# Altium schematic symbol library MemoryOld.SchLib: 102 symbols
Pins are listed as number, name and electrical type; pins without a type are passive.

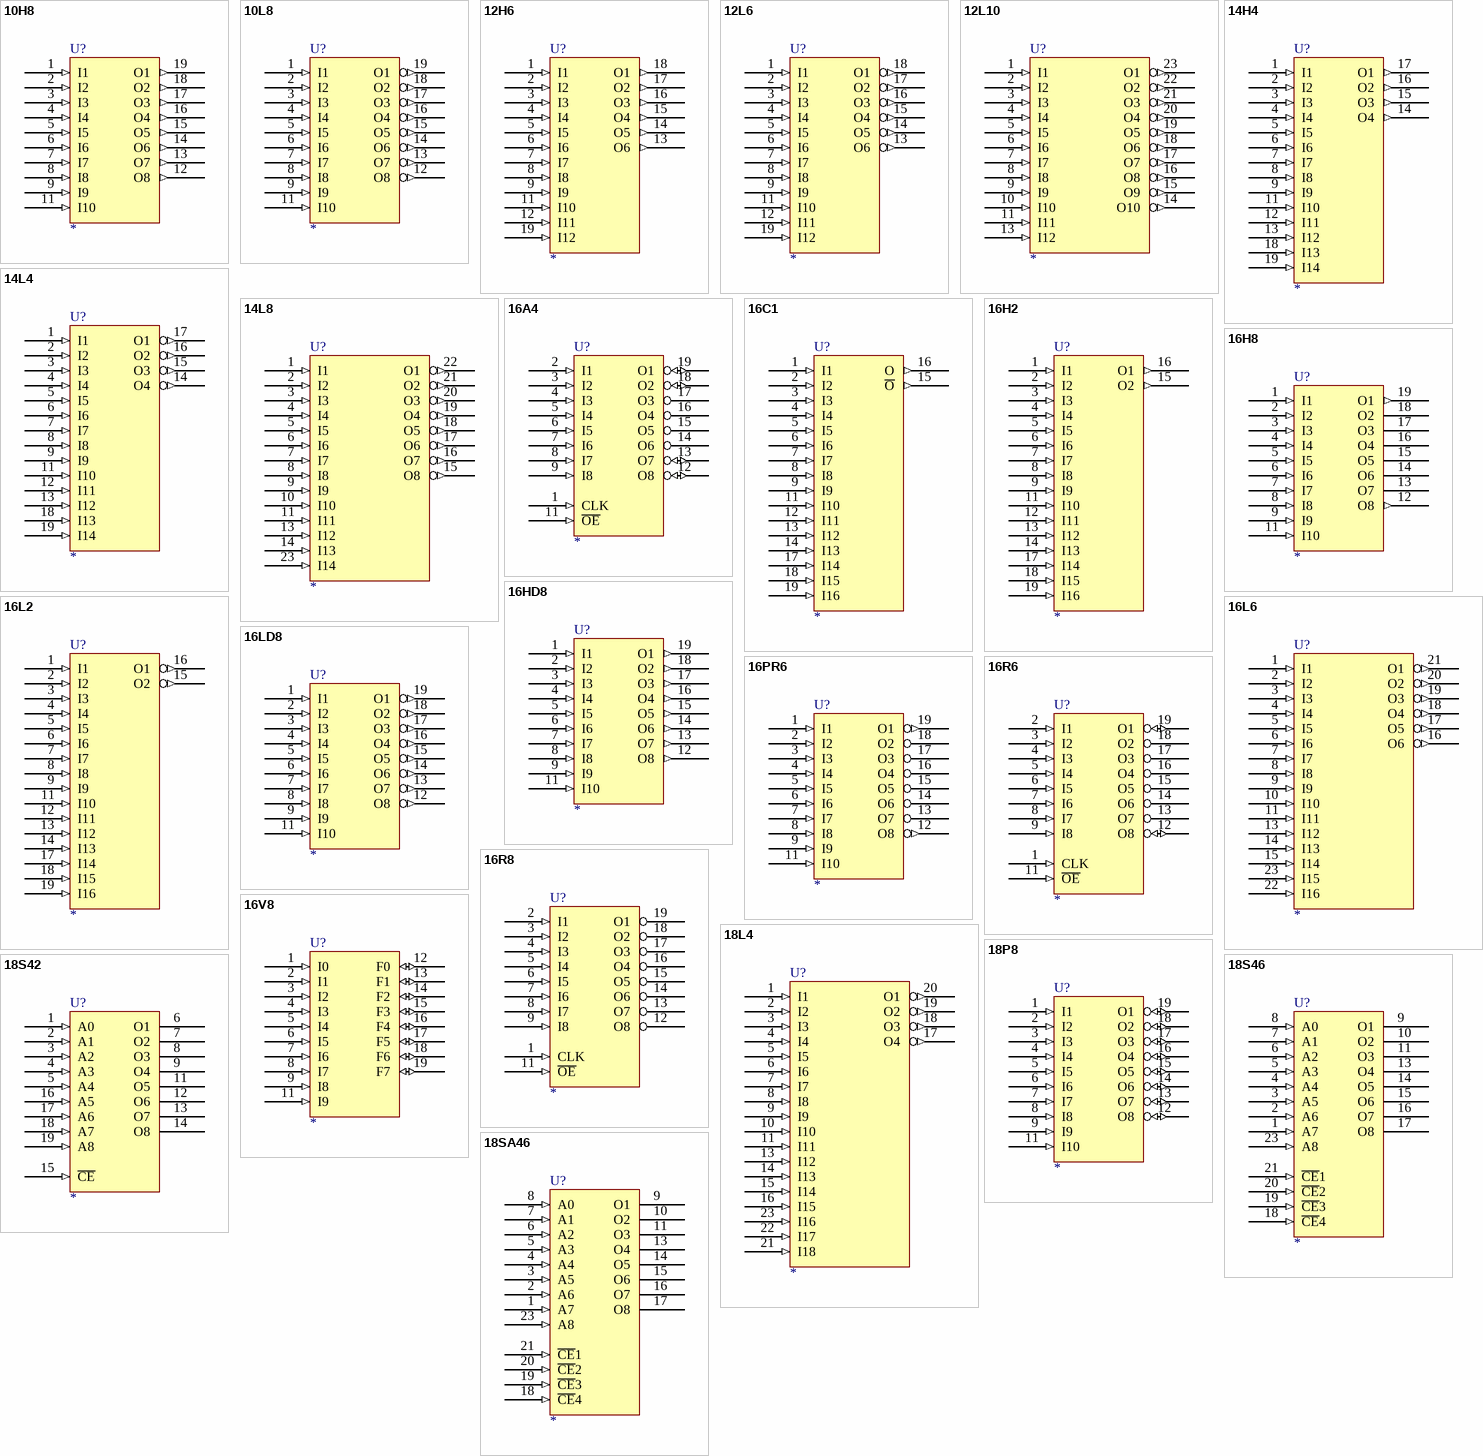
[diagram p0: symbols 10H8 to 18SA46]

## 10H8
designator U?
pins: 1 I1 (in), 2 I2 (in), 3 I3 (in), 4 I4 (in), 5 I5 (in), 6 I6 (in), 7 I7 (in), 8 I8 (in), 9 I9 (in), 10 GND (power) hidden to GND, 11 I10 (in), 12 O8 (out), 13 O7 (out), 14 O6 (out), 15 O5 (out), 16 O4 (out), 17 O3 (out), 18 O2 (out), 19 O1 (out), 20 VCC (power) hidden to VCC

## 10L8
designator U?
pins: 1 I1 (in), 2 I2 (in), 3 I3 (in), 4 I4 (in), 5 I5 (in), 6 I6 (in), 7 I7 (in), 8 I8 (in), 9 I9 (in), 10 GND (power) hidden to GND, 11 I10 (in), 12 O8 (out), 13 O7 (out), 14 O6 (out), 15 O5 (out), 16 O4 (out), 17 O3 (out), 18 O2 (out), 19 O1 (out), 20 VCC (power) hidden to VCC

## 12H6
designator U?
pins: 1 I1 (in), 2 I2 (in), 3 I3 (in), 4 I4 (in), 5 I5 (in), 6 I6 (in), 7 I7 (in), 8 I8 (in), 9 I9 (in), 10 GND (power) hidden to GND, 11 I10 (in), 12 I11 (in), 13 O6 (out), 14 O5 (out), 15 O4 (out), 16 O3 (out), 17 O2 (out), 18 O1 (out), 19 I12 (in), 20 VCC (power) hidden to VCC

## 12L6
designator U?
pins: 1 I1 (in), 2 I2 (in), 3 I3 (in), 4 I4 (in), 5 I5 (in), 6 I6 (in), 7 I7 (in), 8 I8 (in), 9 I9 (in), 10 GND (power) hidden to GND, 11 I10 (in), 12 I11 (in), 13 O6 (out), 14 O5 (out), 15 O4 (out), 16 O3 (out), 17 O2 (out), 18 O1 (out), 19 I12 (in), 20 VCC (power) hidden to VCC

## 12L10
designator U?
pins: 1 I1 (in), 2 I2 (in), 3 I3 (in), 4 I4 (in), 5 I5 (in), 6 I6 (in), 7 I7 (in), 8 I8 (in), 9 I9 (in), 10 I10 (in), 11 I11 (in), 12 GND (power) hidden to GND, 13 I12 (in), 14 O10 (out), 15 O9 (out), 16 O8 (out), 17 O7 (out), 18 O6 (out), 19 O5 (out), 20 O4 (out), 21 O3 (out), 22 O2 (out), 23 O1 (out), 24 VCC (power) hidden to VCC

## 14H4
designator U?
pins: 1 I1 (in), 2 I2 (in), 3 I3 (in), 4 I4 (in), 5 I5 (in), 6 I6 (in), 7 I7 (in), 8 I8 (in), 9 I9 (in), 10 GND (power) hidden to GND, 11 I10 (in), 12 I11 (in), 13 I12 (in), 14 O4 (out), 15 O3 (out), 16 O2 (out), 17 O1 (out), 18 I13 (in), 19 I14 (in), 20 VCC (power) hidden to VCC

## 14L4
designator U?
pins: 1 I1 (in), 2 I2 (in), 3 I3 (in), 4 I4 (in), 5 I5 (in), 6 I6 (in), 7 I7 (in), 8 I8 (in), 9 I9 (in), 10 GND (power) hidden to GND, 11 I10 (in), 12 I11 (in), 13 I12 (in), 14 O4 (out), 15 O3 (out), 16 O2 (out), 17 O1 (out), 18 I13 (in), 19 I14 (in), 20 VCC (power) hidden to VCC

## 14L8
designator U?
pins: 1 I1 (in), 2 I2 (in), 3 I3 (in), 4 I4 (in), 5 I5 (in), 6 I6 (in), 7 I7 (in), 8 I8 (in), 9 I9 (in), 10 I10 (in), 11 I11 (in), 12 GND (power) hidden to GND, 13 I12 (in), 14 I13 (in), 15 O8 (out), 16 O7 (out), 17 O6 (out), 18 O5 (out), 19 O4 (out), 20 O3 (out), 21 O2 (out), 22 O1 (out), 23 I14 (in), 24 VCC (power) hidden to VCC

## 16A4
designator U?
pins: 1 CLK (in), 2 I1 (in), 3 I2 (in), 4 I3 (in), 5 I4 (in), 6 I5 (in), 7 I6 (in), 8 I7 (in), 9 I8 (in), 10 GND (power) hidden to GND, 11 ~{OE} (in), 12 O8 (io), 13 O7 (io), 14 O6 (hiz), 15 O5 (hiz), 16 O4 (hiz), 17 O3 (hiz), 18 O2 (io), 19 O1 (io), 20 VCC (power) hidden to VCC

## 16C1
designator U?
pins: 1 I1 (in), 2 I2 (in), 3 I3 (in), 4 I4 (in), 5 I5 (in), 6 I6 (in), 7 I7 (in), 8 I8 (in), 9 I9 (in), 10 GND (power) hidden to GND, 11 I10 (in), 12 I11 (in), 13 I12 (in), 14 I13 (in), 15 ~{O} (out), 16 O (out), 17 I14 (in), 18 I15 (in), 19 I16 (in), 20 VCC (power) hidden to VCC

## 16H2
designator U?
pins: 1 I1 (in), 2 I2 (in), 3 I3 (in), 4 I4 (in), 5 I5 (in), 6 I6 (in), 7 I7 (in), 8 I8 (in), 9 I9 (in), 10 GND (power) hidden to GND, 11 I10 (in), 12 I11 (in), 13 I12 (in), 14 I13 (in), 15 O2 (out), 16 O1 (out), 17 I14 (in), 18 I15 (in), 19 I16 (in), 20 VCC (power) hidden to VCC

## 16H8
designator U?
pins: 1 I1 (in), 2 I2 (in), 3 I3 (in), 4 I4 (in), 5 I5 (in), 6 I6 (in), 7 I7 (in), 8 I8 (in), 9 I9 (in), 10 GND (power) hidden to GND, 11 I10 (in), 12 O8 (out), 13 O7 (hiz), 14 O6 (hiz), 15 O5 (hiz), 16 O4 (hiz), 17 O3 (hiz), 18 O2 (hiz), 19 O1 (out), 20 VCC (power) hidden to VCC

## 16HD8
designator U?
pins: 1 I1 (in), 2 I2 (in), 3 I3 (in), 4 I4 (in), 5 I5 (in), 6 I6 (in), 7 I7 (in), 8 I8 (in), 9 I9 (in), 10 GND (power) hidden to GND, 11 I10 (in), 12 O8 (out), 13 O7 (out), 14 O6 (out), 15 O5 (out), 16 O4 (out), 17 O3 (out), 18 O2 (out), 19 O1 (out), 20 VCC (power) hidden to VCC

## 16L2
designator U?
pins: 1 I1 (in), 2 I2 (in), 3 I3 (in), 4 I4 (in), 5 I5 (in), 6 I6 (in), 7 I7 (in), 8 I8 (in), 9 I9 (in), 10 GND (power) hidden to GND, 11 I10 (in), 12 I11 (in), 13 I12 (in), 14 I13 (in), 15 O2 (out), 16 O1 (out), 17 I14 (in), 18 I15 (in), 19 I16 (in), 20 VCC (power) hidden to VCC

## 16L6
designator U?
pins: 1 I1 (in), 2 I2 (in), 3 I3 (in), 4 I4 (in), 5 I5 (in), 6 I6 (in), 7 I7 (in), 8 I8 (in), 9 I9 (in), 10 I10 (in), 11 I11 (in), 12 GND (power) hidden to GND, 13 I12 (in), 14 I13 (in), 15 I14 (in), 16 O6 (out), 17 O5 (out), 18 O4 (out), 19 O3 (out), 20 O2 (out), 21 O1 (out), 22 I16 (in), 23 I15 (in), 24 VCC (power) hidden to VCC

## 16LD8
designator U?
pins: 1 I1 (in), 2 I2 (in), 3 I3 (in), 4 I4 (in), 5 I5 (in), 6 I6 (in), 7 I7 (in), 8 I8 (in), 9 I9 (in), 10 GND (power) hidden to GND, 11 I10 (in), 12 O8 (out), 13 O7 (out), 14 O6 (out), 15 O5 (out), 16 O4 (out), 17 O3 (out), 18 O2 (out), 19 O1 (out), 20 VCC (power) hidden to VCC

## 16PR6
designator U?
pins: 1 I1 (in), 2 I2 (in), 3 I3 (in), 4 I4 (in), 5 I5 (in), 6 I6 (in), 7 I7 (in), 8 I8 (in), 9 I9 (in), 10 GND (power) hidden to GND, 11 I10 (in), 12 O8 (out), 13 O7 (hiz), 14 O6 (hiz), 15 O5 (hiz), 16 O4 (hiz), 17 O3 (hiz), 18 O2 (hiz), 19 O1 (out), 20 VCC (power) hidden to VCC

## 16R6
designator U?
pins: 1 CLK (in), 2 I1 (in), 3 I2 (in), 4 I3 (in), 5 I4 (in), 6 I5 (in), 7 I6 (in), 8 I7 (in), 9 I8 (in), 10 GND (power) hidden to GND, 11 ~{OE} (in), 12 O8 (io), 13 O7 (hiz), 14 O6 (hiz), 15 O5 (hiz), 16 O4 (hiz), 17 O3 (hiz), 18 O2 (hiz), 19 O1 (io), 20 VCC (power) hidden to VCC

## 16R8
designator U?
pins: 1 CLK (in), 2 I1 (in), 3 I2 (in), 4 I3 (in), 5 I4 (in), 6 I5 (in), 7 I6 (in), 8 I7 (in), 9 I8 (in), 10 GND (power) hidden to GND, 11 ~{OE} (in), 12 O8 (hiz), 13 O7 (hiz), 14 O6 (hiz), 15 O5 (hiz), 16 O4 (hiz), 17 O3 (hiz), 18 O2 (hiz), 19 O1 (hiz), 20 VCC (power) hidden to VCC

## 16V8
designator U?
footprint 20DIP300
pins: 1 I0 (in), 2 I1 (in), 3 I2 (in), 4 I3 (in), 5 I4 (in), 6 I5 (in), 7 I6 (in), 8 I7 (in), 9 I8 (in), 10 GND (power) hidden to GND, 11 I9 (in), 12 F0 (io), 13 F1 (io), 14 F2 (io), 15 F3 (io), 16 F4 (io), 17 F5 (io), 18 F6 (io), 19 F7 (io), 20 VCC (power) hidden to VCC

## 18L4
designator U?
pins: 1 I1 (in), 2 I2 (in), 3 I3 (in), 4 I4 (in), 5 I5 (in), 6 I6 (in), 7 I7 (in), 8 I8 (in), 9 I9 (in), 10 I10 (in), 11 I11 (in), 12 GND (power) hidden to GND, 13 I12 (in), 14 I13 (in), 15 I14 (in), 16 I15 (in), 17 O4 (out), 18 O3 (out), 19 O2 (out), 20 O1 (out), 21 I18 (in), 22 I17 (in), 23 I16 (in), 24 VCC (power) hidden to VCC

## 18P8
designator U?
pins: 1 I1 (in), 2 I2 (in), 3 I3 (in), 4 I4 (in), 5 I5 (in), 6 I6 (in), 7 I7 (in), 8 I8 (in), 9 I9 (in), 10 GND (power) hidden to GND, 11 I10 (in), 12 O8 (io), 13 O7 (io), 14 O6 (io), 15 O5 (io), 16 O4 (io), 17 O3 (io), 18 O2 (io), 19 O1 (io), 20 VCC (power) hidden to VCC

## 18S42
designator U?
pins: 1 A0 (in), 2 A1 (in), 3 A2 (in), 4 A3 (in), 5 A4 (in), 6 O1 (hiz), 7 O2 (hiz), 8 O3 (hiz), 9 O4 (hiz), 10 GND (power) hidden to GND, 11 O5 (hiz), 12 O6 (hiz), 13 O7 (hiz), 14 O8 (hiz), 15 ~{CE} (in), 16 A5 (in), 17 A6 (in), 18 A7 (in), 19 A8 (in), 20 VCC (power) hidden to VCC

## 18S46
designator U?
pins: 1 A7 (in), 2 A6 (in), 3 A5 (in), 4 A4 (in), 5 A3 (in), 6 A2 (in), 7 A1 (in), 8 A0 (in), 9 O1 (hiz), 10 O2 (hiz), 11 O3 (hiz), 12 GND (power) hidden to GND, 13 O4 (hiz), 14 O5 (hiz), 15 O6 (hiz), 16 O7 (hiz), 17 O8 (hiz), 18 ~{CE}4 (in), 19 ~{CE}3 (in), 20 ~{CE}2 (in), 21 ~{CE}1 (in), 23 A8 (in), 24 VCC (power) hidden to VCC

## 18SA46
designator U?
pins: 1 A7 (in), 2 A6 (in), 3 A5 (in), 4 A4 (in), 5 A3 (in), 6 A2 (in), 7 A1 (in), 8 A0 (in), 9 O1 (oc), 10 O2 (oc), 11 O3 (oc), 12 GND (power) hidden to GND, 13 O4 (oc), 14 O5 (oc), 15 O6 (oc), 16 O7 (oc), 17 O8 (oc), 18 ~{CE}4 (in), 19 ~{CE}3 (in), 20 ~{CE}2 (in), 21 ~{CE}1 (in), 23 A8 (in), 24 VCC (power) hidden to VCC

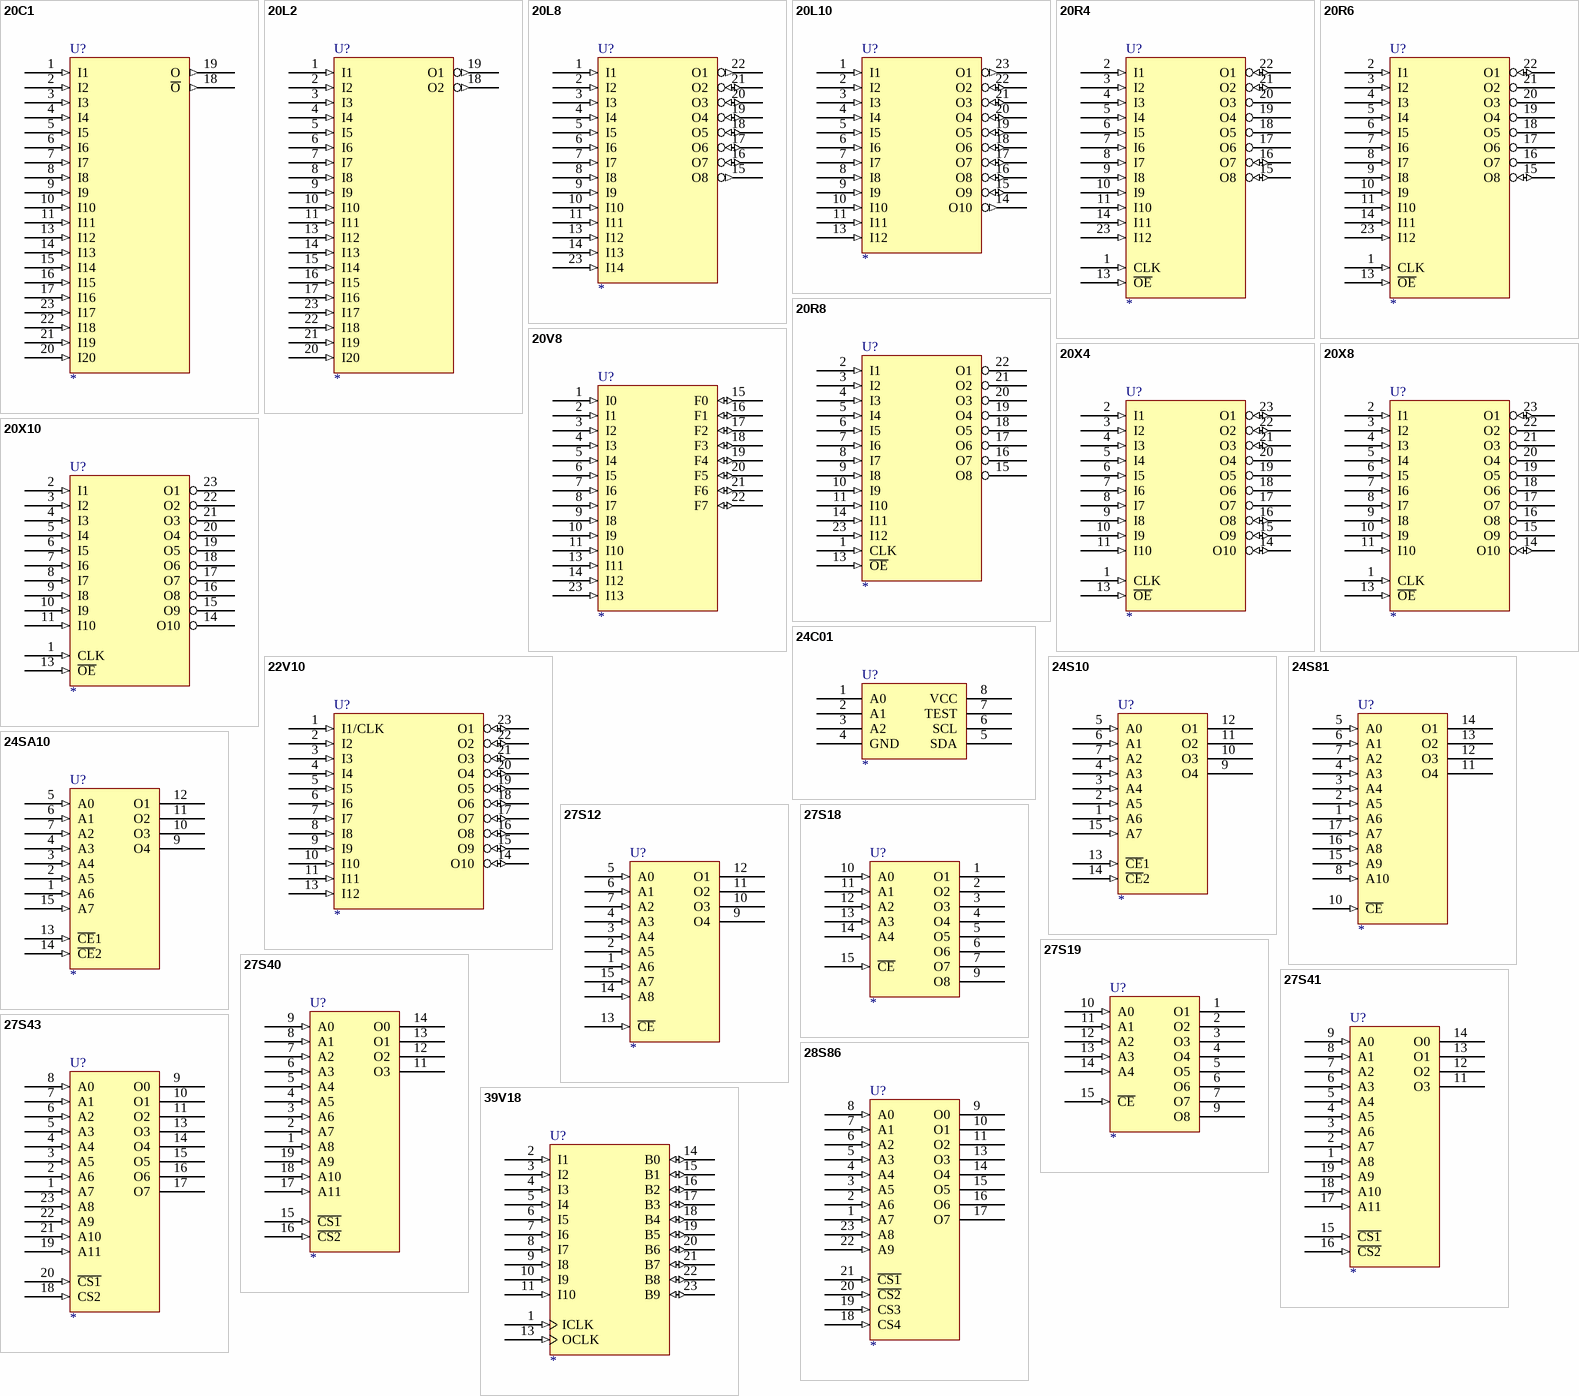
[diagram p1: symbols 20C1 to 39V18]

## 20C1
designator U?
pins: 1 I1 (in), 2 I2 (in), 3 I3 (in), 4 I4 (in), 5 I5 (in), 6 I6 (in), 7 I7 (in), 8 I8 (in), 9 I9 (in), 10 I10 (in), 11 I11 (in), 12 GND (power) hidden to GND, 13 I12 (in), 14 I13 (in), 15 I14 (in), 16 I15 (in), 17 I16 (in), 18 ~{O} (out), 19 O (out), 20 I20 (in), 21 I19 (in), 22 I18 (in), 23 I17 (in), 24 VCC (power) hidden to VCC

## 20L2
designator U?
pins: 1 I1 (in), 2 I2 (in), 3 I3 (in), 4 I4 (in), 5 I5 (in), 6 I6 (in), 7 I7 (in), 8 I8 (in), 9 I9 (in), 10 I10 (in), 11 I11 (in), 12 GND (power) hidden to GND, 13 I12 (in), 14 I13 (in), 15 I14 (in), 16 I15 (in), 17 I16 (in), 18 O2 (out), 19 O1 (out), 20 I20 (in), 21 I19 (in), 22 I18 (in), 23 I17 (in), 24 VCC (power) hidden to VCC

## 20L8
designator U?
pins: 1 I1 (in), 2 I2 (in), 3 I3 (in), 4 I4 (in), 5 I5 (in), 6 I6 (in), 7 I7 (in), 8 I8 (in), 9 I9 (in), 10 I10 (in), 11 I11 (in), 12 GND (power) hidden to GND, 13 I12 (in), 14 I13 (in), 15 O8 (out), 16 O7 (io), 17 O6 (io), 18 O5 (io), 19 O4 (io), 20 O3 (io), 21 O2 (io), 22 O1 (out), 23 I14 (in), 24 VCC (power) hidden to VCC

## 20L10
designator U?
pins: 1 I1 (in), 2 I2 (in), 3 I3 (in), 4 I4 (in), 5 I5 (in), 6 I6 (in), 7 I7 (in), 8 I8 (in), 9 I9 (in), 10 I10 (in), 11 I11 (in), 12 GND (power) hidden to GND, 13 I12 (in), 14 O10 (out), 15 O9 (io), 16 O8 (io), 17 O7 (io), 18 O6 (io), 19 O5 (io), 20 O4 (io), 21 O3 (io), 22 O2 (io), 23 O1 (out), 24 VCC (power) hidden to VCC

## 20R4
designator U?
pins: 1 CLK (in), 2 I1 (in), 3 I2 (in), 4 I3 (in), 5 I4 (in), 6 I5 (in), 7 I6 (in), 8 I7 (in), 9 I8 (in), 10 I9 (in), 11 I10 (in), 12 GND (power) hidden to GND, 13 ~{OE} (in), 14 I11 (in), 15 O8 (io), 16 O7 (io), 17 O6 (hiz), 18 O5 (hiz), 19 O4 (hiz), 20 O3 (hiz), 21 O2 (io), 22 O1 (io), 23 I12 (in), 24 VCC (power) hidden to VCC

## 20R6
designator U?
pins: 1 CLK (in), 2 I1 (in), 3 I2 (in), 4 I3 (in), 5 I4 (in), 6 I5 (in), 7 I6 (in), 8 I7 (in), 9 I8 (in), 10 I9 (in), 11 I10 (in), 12 GND (power) hidden to GND, 13 ~{OE} (in), 14 I11 (in), 15 O8 (io), 16 O7 (hiz), 17 O6 (hiz), 18 O5 (hiz), 19 O4 (hiz), 20 O3 (hiz), 21 O2 (hiz), 22 O1 (io), 23 I12 (in), 24 VCC (power) hidden to VCC

## 20R8
designator U?
pins: 1 CLK (in), 2 I1 (in), 3 I2 (in), 4 I3 (in), 5 I4 (in), 6 I5 (in), 7 I6 (in), 8 I7 (in), 9 I8 (in), 10 I9 (in), 11 I10 (in), 12 GND (power) hidden to GND, 13 ~{OE} (in), 14 I11 (in), 15 O8 (hiz), 16 O7 (hiz), 17 O6 (hiz), 18 O5 (hiz), 19 O4 (hiz), 20 O3 (hiz), 21 O2 (hiz), 22 O1 (hiz), 23 I12 (in), 24 VCC (power) hidden to VCC

## 20V8
designator U?
pins: 1 I0 (in), 2 I1 (in), 3 I2 (in), 4 I3 (in), 5 I4 (in), 6 I5 (in), 7 I6 (in), 8 I7 (in), 9 I8 (in), 10 I9 (in), 11 I10 (in), 12 GND (power) hidden to GND, 13 I11 (in), 14 I12 (in), 15 F0 (io), 16 F1 (io), 17 F2 (io), 18 F3 (io), 19 F4 (io), 20 F5 (io), 21 F6 (io), 22 F7 (io), 23 I13 (in), 24 VCC (power) hidden to VCC

## 20X4
designator U?
pins: 1 CLK (in), 2 I1 (in), 3 I2 (in), 4 I3 (in), 5 I4 (in), 6 I5 (in), 7 I6 (in), 8 I7 (in), 9 I8 (in), 10 I9 (in), 11 I10 (in), 12 GND (power) hidden to GND, 13 ~{OE} (in), 14 O10 (io), 15 O9 (io), 16 O8 (io), 17 O7 (hiz), 18 O6 (hiz), 19 O5 (hiz), 20 O4 (hiz), 21 O3 (io), 22 O2 (io), 23 O1 (io), 24 VCC (power) hidden to VCC

## 20X8
designator U?
pins: 1 CLK (in), 2 I1 (in), 3 I2 (in), 4 I3 (in), 5 I4 (in), 6 I5 (in), 7 I6 (in), 8 I7 (in), 9 I8 (in), 10 I9 (in), 11 I10 (in), 12 GND (power) hidden to GND, 13 ~{OE} (in), 14 O10 (io), 15 O9 (hiz), 16 O8 (hiz), 17 O7 (hiz), 18 O6 (hiz), 19 O5 (hiz), 20 O4 (hiz), 21 O3 (hiz), 22 O2 (hiz), 23 O1 (io), 24 VCC (power) hidden to VCC

## 20X10
designator U?
pins: 1 CLK (in), 2 I1 (in), 3 I2 (in), 4 I3 (in), 5 I4 (in), 6 I5 (in), 7 I6 (in), 8 I7 (in), 9 I8 (in), 10 I9 (in), 11 I10 (in), 12 GND (power) hidden to GND, 13 ~{OE} (in), 14 O10 (hiz), 15 O9 (hiz), 16 O8 (hiz), 17 O7 (hiz), 18 O6 (hiz), 19 O5 (hiz), 20 O4 (hiz), 21 O3 (hiz), 22 O2 (hiz), 23 O1 (hiz), 24 VCC (power) hidden to VCC

## 22V10
designator U?
footprint 24DIP300
pins: 1 I1/CLK (in), 2 I2 (in), 3 I3 (in), 4 I4 (in), 5 I5 (in), 6 I6 (in), 7 I7 (in), 8 I8 (in), 9 I9 (in), 10 I10 (in), 11 I11 (in), 12 GND (power) hidden to GND, 13 I12 (in), 14 O10 (io), 15 O9 (io), 16 O8 (io), 17 O7 (io), 18 O6 (io), 19 O5 (io), 20 O4 (io), 21 O3 (io), 22 O2 (io), 23 O1 (io), 24 VCC (power) hidden to VCC

## 24C01
designator U?
pins: 1 A0, 2 A1, 3 A2, 4 GND, 5 SDA, 6 SCL, 7 TEST, 8 VCC

## 24S10
designator U?
pins: 1 A6 (in), 2 A5 (in), 3 A4 (in), 4 A3 (in), 5 A0 (in), 6 A1 (in), 7 A2 (in), 8 GND (power) hidden to GND, 9 O4 (hiz), 10 O3 (hiz), 11 O2 (hiz), 12 O1 (hiz), 13 ~{CE}1 (in), 14 ~{CE}2 (in), 15 A7 (in), 16 VCC (power) hidden to VCC

## 24S81
designator U?
pins: 1 A6 (in), 2 A5 (in), 3 A4 (in), 4 A3 (in), 5 A0 (in), 6 A1 (in), 7 A2 (in), 8 A10 (in), 9 GND (power) hidden to GND, 10 ~{CE} (in), 11 O4 (hiz), 12 O3 (hiz), 13 O2 (hiz), 14 O1 (hiz), 15 A9 (in), 16 A8 (in), 17 A7 (in), 18 VCC (power) hidden to VCC

## 24SA10
designator U?
pins: 1 A6 (in), 2 A5 (in), 3 A4 (in), 4 A3 (in), 5 A0 (in), 6 A1 (in), 7 A2 (in), 8 GND (power) hidden to GND, 9 O4 (oc), 10 O3 (oc), 11 O2 (oc), 12 O1 (oc), 13 ~{CE}1 (in), 14 ~{CE}2 (in), 15 A7 (in), 16 VCC (power) hidden to VCC

## 27S12
designator U?
pins: 1 A6 (in), 2 A5 (in), 3 A4 (in), 4 A3 (in), 5 A0 (in), 6 A1 (in), 7 A2 (in), 8 GND (power) hidden to GND, 9 O4 (hiz), 10 O3 (hiz), 11 O2 (hiz), 12 O1 (hiz), 13 ~{CE} (in), 14 A8 (in), 15 A7 (in), 16 VCC (power) hidden to VCC

## 27S18
designator U?
pins: 1 O1 (oc), 2 O2 (oc), 3 O3 (oc), 4 O4 (oc), 5 O5 (oc), 6 O6 (oc), 7 O7 (oc), 8 GND (power) hidden to GND, 9 O8 (oc), 10 A0 (in), 11 A1 (in), 12 A2 (in), 13 A3 (in), 14 A4 (in), 15 ~{CE} (in), 16 VCC (power) hidden to VCC

## 27S19
designator U?
pins: 1 O1 (hiz), 2 O2 (hiz), 3 O3 (hiz), 4 O4 (hiz), 5 O5 (hiz), 6 O6 (hiz), 7 O7 (hiz), 8 GND (power) hidden to GND, 9 O8 (hiz), 10 A0 (in), 11 A1 (in), 12 A2 (in), 13 A3 (in), 14 A4 (in), 15 ~{CE} (in), 16 VCC (power) hidden to VCC

## 27S40
designator U?
pins: 1 A8 (in), 2 A7 (in), 3 A6 (in), 4 A5 (in), 5 A4 (in), 6 A3 (in), 7 A2 (in), 8 A1 (in), 9 A0 (in), 10 GND (power) hidden to GND, 11 O3 (oc), 12 O2 (oc), 13 O1 (oc), 14 O0 (oc), 15 ~{CS1} (in), 16 ~{CS2} (in), 17 A11 (in), 18 A10 (in), 19 A9 (in), 20 VCC (power) hidden to VCC

## 27S41
designator U?
pins: 1 A8 (in), 2 A7 (in), 3 A6 (in), 4 A5 (in), 5 A4 (in), 6 A3 (in), 7 A2 (in), 8 A1 (in), 9 A0 (in), 10 GND (power) hidden to GND, 11 O3 (hiz), 12 O2 (hiz), 13 O1 (hiz), 14 O0 (hiz), 15 ~{CS1} (in), 16 ~{CS2} (in), 17 A11 (in), 18 A10 (in), 19 A9 (in), 20 VCC (power) hidden to VCC

## 27S43
designator U?
pins: 1 A7 (in), 2 A6 (in), 3 A5 (in), 4 A4 (in), 5 A3 (in), 6 A2 (in), 7 A1 (in), 8 A0 (in), 9 O0 (hiz), 10 O1 (hiz), 11 O2 (hiz), 12 GND (power) hidden to GND, 13 O3 (hiz), 14 O4 (hiz), 15 O5 (hiz), 16 O6 (hiz), 17 O7 (hiz), 18 CS2 (in), 19 A11 (in), 20 ~{CS1} (in), 21 A10 (in), 22 A9 (in), 23 A8 (in), 24 VCC (power) hidden to VCC

## 28S86
designator U?
pins: 1 A7 (in), 2 A6 (in), 3 A5 (in), 4 A4 (in), 5 A3 (in), 6 A2 (in), 7 A1 (in), 8 A0 (in), 9 O0 (hiz), 10 O1 (hiz), 11 O2 (hiz), 12 GND (power) hidden to GND, 13 O3 (hiz), 14 O4 (hiz), 15 O5 (hiz), 16 O6 (hiz), 17 O7 (hiz), 18 CS4 (in), 19 CS3 (in), 20 ~{CS2} (in), 21 ~{CS1} (in), 22 A9 (in), 23 A8 (in), 24 VCC (power) hidden to VCC

## 39V18
designator U?
pins: 1 ICLK (in), 2 I1 (in), 3 I2 (in), 4 I3 (in), 5 I4 (in), 6 I5 (in), 7 I6 (in), 8 I7 (in), 9 I8 (in), 10 I9 (in), 11 I10 (in), 12 GND (power) hidden to GND, 13 OCLK (in), 14 B0 (io), 15 B1 (io), 16 B2 (io), 17 B3 (io), 18 B4 (io), 19 B5 (io), 20 B6 (io), 21 B7 (io), 22 B8 (io), 23 B9 (io), 24 VCC (power) hidden to VCC

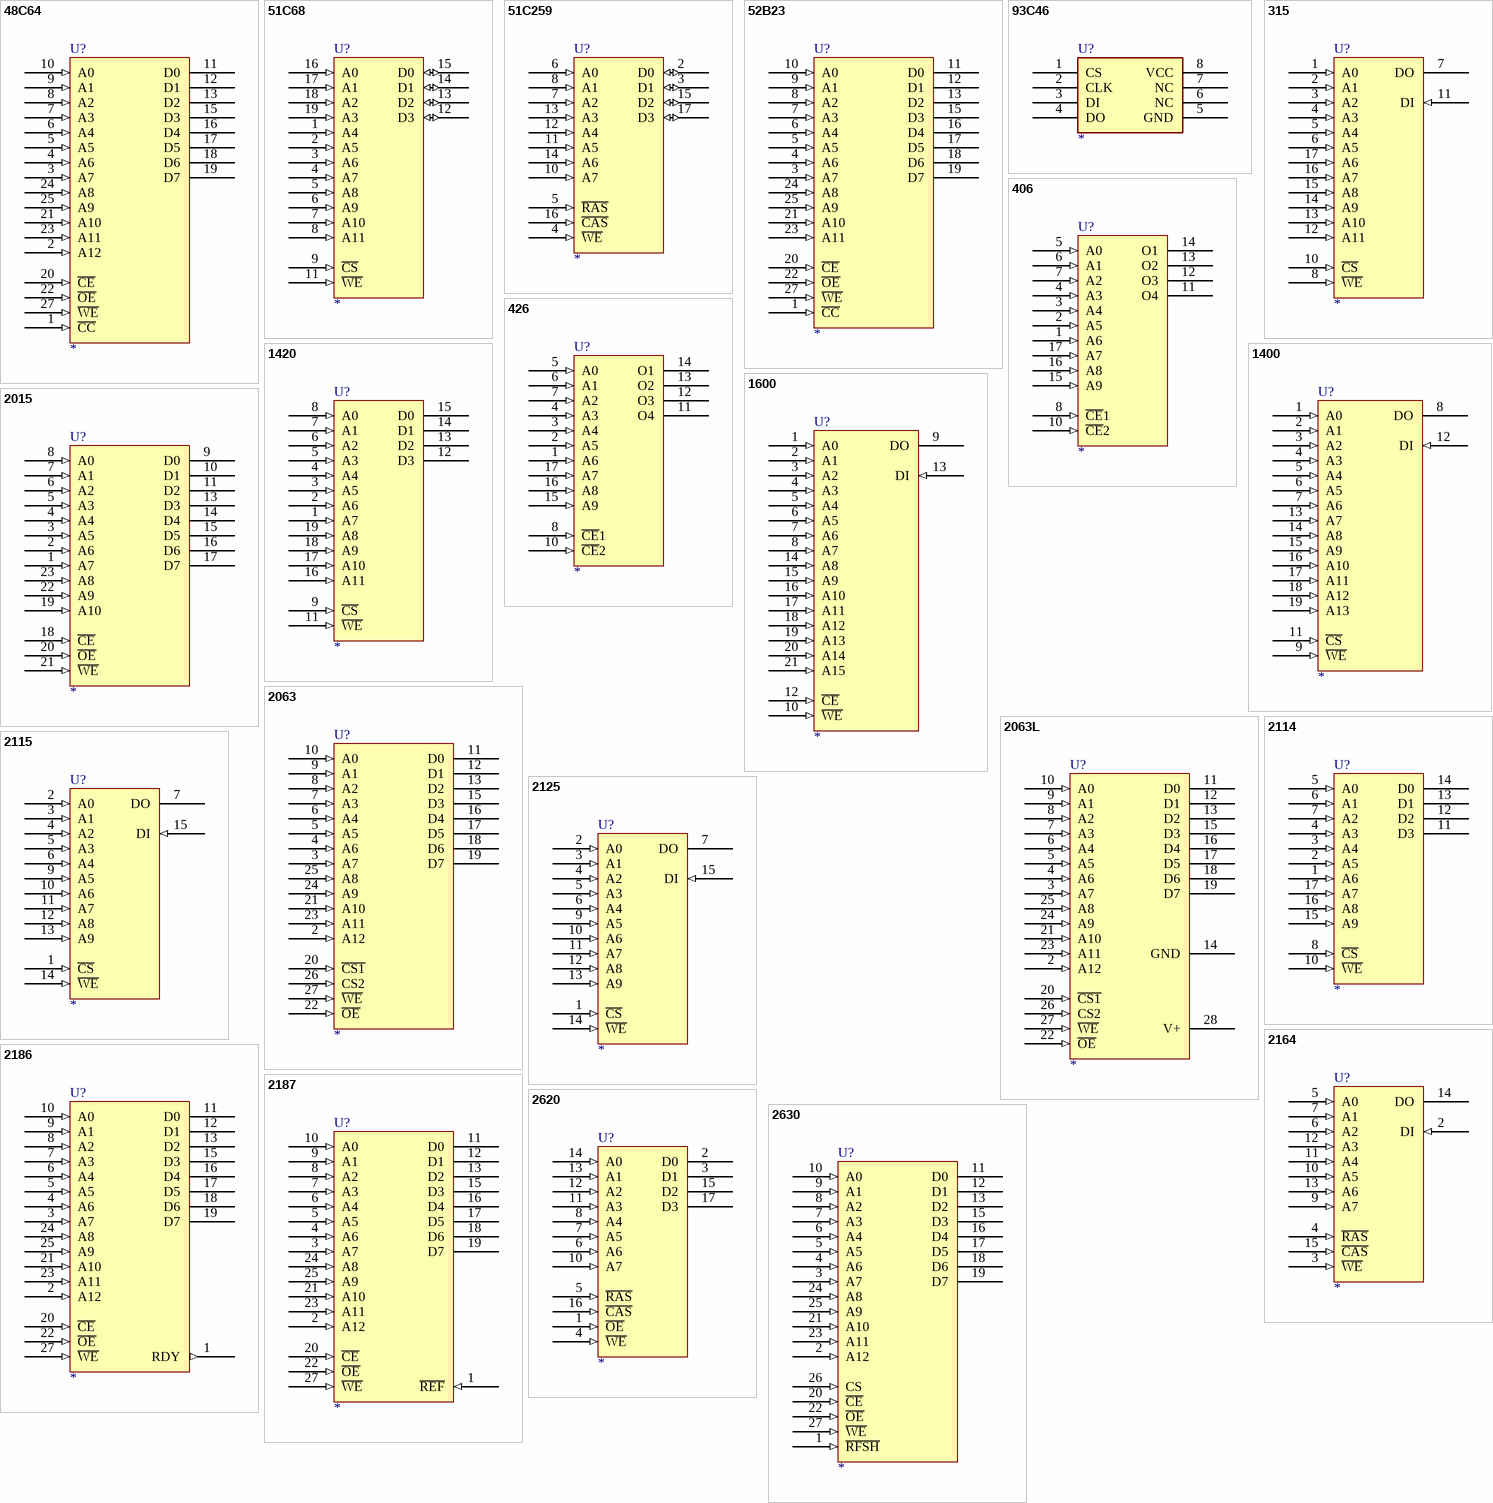
[diagram p2: symbols 48C64 to 2630]

## 48C64
designator U?
pins: 1 ~{CC} (in), 2 A12 (in), 3 A7 (in), 4 A6 (in), 5 A5 (in), 6 A4 (in), 7 A3 (in), 8 A2 (in), 9 A1 (in), 10 A0 (in), 11 D0 (hiz), 12 D1 (hiz), 13 D2 (hiz), 14 GND (power) hidden to GND, 15 D3 (hiz), 16 D4 (hiz), 17 D5 (hiz), 18 D6 (hiz), 19 D7 (hiz), 20 ~{CE} (in), 21 A10 (in), 22 ~{OE} (in), 23 A11 (in), 24 A8 (in), 25 A9 (in), 27 ~{WE} (in), 28 VCC (power) hidden to VCC

## 51C68
designator U?
pins: 1 A4 (in), 2 A5 (in), 3 A6 (in), 4 A7 (in), 5 A8 (in), 6 A9 (in), 7 A10 (in), 8 A11 (in), 9 ~{CS} (in), 10 GND (power) hidden to GND, 11 ~{WE} (in), 12 D3 (io), 13 D2 (io), 14 D1 (io), 15 D0 (io), 16 A0 (in), 17 A1 (in), 18 A2 (in), 19 A3 (in), 20 VCC (power) hidden to VCC

## 51C259
designator U?
pins: 2 D0 (io), 3 D1 (io), 4 ~{WE} (in), 5 ~{RAS} (in), 6 A0 (in), 7 A2 (in), 8 A1 (in), 9 VCC (power) hidden to VCC, 10 A7 (in), 11 A5 (in), 12 A4 (in), 13 A3 (in), 14 A6 (in), 15 D2 (io), 16 ~{CAS} (in), 17 D3 (io), 18 VSS (power) hidden to VSS

## 52B23
designator U?
pins: 1 ~{CC} (in), 3 A7 (in), 4 A6 (in), 5 A5 (in), 6 A4 (in), 7 A3 (in), 8 A2 (in), 9 A1 (in), 10 A0 (in), 11 D0 (hiz), 12 D1 (hiz), 13 D2 (hiz), 14 GND (power) hidden to GND, 15 D3 (hiz), 16 D4 (hiz), 17 D5 (hiz), 18 D6 (hiz), 19 D7 (hiz), 20 ~{CE} (in), 21 A10 (in), 22 ~{OE} (in), 23 A11 (in), 24 A8 (in), 25 A9 (in), 27 ~{WE} (in), 28 VCC (power) hidden to VCC

## 93C46
designator U?
footprint 8DIP300
footprint 8SOIC150
pins: 1 CS, 2 CLK, 3 DI, 4 DO, 5 GND, 6 NC, 7 NC, 8 VCC

## 315
designator U?
pins: 1 A0 (in), 2 A1 (in), 3 A2 (in), 4 A3 (in), 5 A4 (in), 6 A5 (in), 7 DO (hiz), 8 ~{WE} (in), 9 GND (power) hidden to GND, 10 ~{CS} (in), 11 DI (in), 12 A11 (in), 13 A10 (in), 14 A9 (in), 15 A8 (in), 16 A7 (in), 17 A6 (in), 18 VCC (power) hidden to VCC

## 406
designator U?
pins: 1 A6 (in), 2 A5 (in), 3 A4 (in), 4 A3 (in), 5 A0 (in), 6 A1 (in), 7 A2 (in), 8 ~{CE}1 (in), 9 GND (power) hidden to GND, 10 ~{CE}2 (in), 11 O4 (oc), 12 O3 (oc), 13 O2 (oc), 14 O1 (oc), 15 A9 (in), 16 A8 (in), 17 A7 (in), 18 VCC (power) hidden to VCC

## 426
designator U?
pins: 1 A6 (in), 2 A5 (in), 3 A4 (in), 4 A3 (in), 5 A0 (in), 6 A1 (in), 7 A2 (in), 8 ~{CE}1 (in), 9 GND (power) hidden to GND, 10 ~{CE}2 (in), 11 O4 (hiz), 12 O3 (hiz), 13 O2 (hiz), 14 O1 (hiz), 15 A9 (in), 16 A8 (in), 17 A7 (in), 18 VCC (power) hidden to VCC

## 1400
designator U?
pins: 1 A0 (in), 2 A1 (in), 3 A2 (in), 4 A3 (in), 5 A4 (in), 6 A5 (in), 7 A6 (in), 8 DO (hiz), 9 ~{WE} (in), 10 GND (power) hidden to GND, 11 ~{CS} (in), 12 DI (in), 13 A7 (in), 14 A8 (in), 15 A9 (in), 16 A10 (in), 17 A11 (in), 18 A12 (in), 19 A13 (in), 20 VCC (power) hidden to VCC

## 1420
designator U?
pins: 1 A7 (in), 2 A6 (in), 3 A5 (in), 4 A4 (in), 5 A3 (in), 6 A2 (in), 7 A1 (in), 8 A0 (in), 9 ~{CS} (in), 10 GND (power) hidden to GND, 11 ~{WE} (in), 12 D3 (hiz), 13 D2 (hiz), 14 D1 (hiz), 15 D0 (hiz), 16 A11 (in), 17 A10 (in), 18 A9 (in), 19 A8 (in), 20 VCC (power) hidden to VCC

## 1600
designator U?
pins: 1 A0 (in), 2 A1 (in), 3 A2 (in), 4 A3 (in), 5 A4 (in), 6 A5 (in), 7 A6 (in), 8 A7 (in), 9 DO (hiz), 10 ~{WE} (in), 11 GND (power) hidden to GND, 12 ~{CE} (in), 13 DI (in), 14 A8 (in), 15 A9 (in), 16 A10 (in), 17 A11 (in), 18 A12 (in), 19 A13 (in), 20 A14 (in), 21 A15 (in), 22 VCC (power) hidden to VCC

## 2015
designator U?
pins: 1 A7 (in), 2 A6 (in), 3 A5 (in), 4 A4 (in), 5 A3 (in), 6 A2 (in), 7 A1 (in), 8 A0 (in), 9 D0 (hiz), 10 D1 (hiz), 11 D2 (hiz), 12 GND (power) hidden to GND, 13 D3 (hiz), 14 D4 (hiz), 15 D5 (hiz), 16 D6 (hiz), 17 D7 (hiz), 18 ~{CE} (in), 19 A10 (in), 20 ~{OE} (in), 21 ~{WE} (in), 22 A9 (in), 23 A8 (in), 24 VCC (power) hidden to VCC

## 2063
designator U?
pins: 2 A12 (in), 3 A7 (in), 4 A6 (in), 5 A5 (in), 6 A4 (in), 7 A3 (in), 8 A2 (in), 9 A1 (in), 10 A0 (in), 11 D0 (hiz), 12 D1 (hiz), 13 D2 (hiz), 14 GND (power) hidden to GND, 15 D3 (hiz), 16 D4 (hiz), 17 D5 (hiz), 18 D6 (hiz), 19 D7 (hiz), 20 ~{CS1} (in), 21 A10 (in), 22 ~{OE} (in), 23 A11 (in), 24 A9 (in), 25 A8 (in), 26 CS2 (in), 27 ~{WE} (in), 28 VCC (power) hidden to VCC

## 2063L
designator U?
pins: 2 A12 (in), 3 A7 (in), 4 A6 (in), 5 A5 (in), 6 A4 (in), 7 A3 (in), 8 A2 (in), 9 A1 (in), 10 A0 (in), 11 D0 (hiz), 12 D1 (hiz), 13 D2 (hiz), 14 GND, 15 D3 (hiz), 16 D4 (hiz), 17 D5 (hiz), 18 D6 (hiz), 19 D7 (hiz), 20 ~{CS1} (in), 21 A10 (in), 22 ~{OE} (in), 23 A11 (in), 24 A9 (in), 25 A8 (in), 26 CS2 (in), 27 ~{WE} (in), 28 V+

## 2114
designator U?
pins: 1 A6 (in), 2 A5 (in), 3 A4 (in), 4 A3 (in), 5 A0 (in), 6 A1 (in), 7 A2 (in), 8 ~{CS} (in), 9 GND (power) hidden to GND, 10 ~{WE} (in), 11 D3 (hiz), 12 D2 (hiz), 13 D1 (hiz), 14 D0 (hiz), 15 A9 (in), 16 A8 (in), 17 A7 (in), 18 VCC (power) hidden to VCC

## 2115
designator U?
pins: 1 ~{CS} (in), 2 A0 (in), 3 A1 (in), 4 A2 (in), 5 A3 (in), 6 A4 (in), 7 DO (oc), 8 GND (power) hidden to GND, 9 A5 (in), 10 A6 (in), 11 A7 (in), 12 A8 (in), 13 A9 (in), 14 ~{WE} (in), 15 DI (in), 16 VCC (power) hidden to VCC

## 2125
designator U?
pins: 1 ~{CS} (in), 2 A0 (in), 3 A1 (in), 4 A2 (in), 5 A3 (in), 6 A4 (in), 7 DO (hiz), 8 GND (power) hidden to GND, 9 A5 (in), 10 A6 (in), 11 A7 (in), 12 A8 (in), 13 A9 (in), 14 ~{WE} (in), 15 DI (in), 16 VCC (power) hidden to VCC

## 2164
designator U?
pins: 2 DI (in), 3 ~{WE} (in), 4 ~{RAS} (in), 5 A0 (in), 6 A2 (in), 7 A1 (in), 8 VCC (power) hidden to VCC, 9 A7 (in), 10 A5 (in), 11 A4 (in), 12 A3 (in), 13 A6 (in), 14 DO (hiz), 15 ~{CAS} (in), 16 VSS (power) hidden to VSS

## 2186
designator U?
pins: 1 RDY (out), 2 A12 (in), 3 A7 (in), 4 A6 (in), 5 A5 (in), 6 A4 (in), 7 A3 (in), 8 A2 (in), 9 A1 (in), 10 A0 (in), 11 D0 (hiz), 12 D1 (hiz), 13 D2 (hiz), 14 GND (power) hidden to GND, 15 D3 (hiz), 16 D4 (hiz), 17 D5 (hiz), 18 D6 (hiz), 19 D7 (hiz), 20 ~{CE} (in), 21 A10 (in), 22 ~{OE} (in), 23 A11 (in), 24 A8 (in), 25 A9 (in), 27 ~{WE} (in), 28 VCC (power) hidden to VCC

## 2187
designator U?
pins: 1 ~{REF} (in), 2 A12 (in), 3 A7 (in), 4 A6 (in), 5 A5 (in), 6 A4 (in), 7 A3 (in), 8 A2 (in), 9 A1 (in), 10 A0 (in), 11 D0 (hiz), 12 D1 (hiz), 13 D2 (hiz), 14 GND (power) hidden to GND, 15 D3 (hiz), 16 D4 (hiz), 17 D5 (hiz), 18 D6 (hiz), 19 D7 (hiz), 20 ~{CE} (in), 21 A10 (in), 22 ~{OE} (in), 23 A11 (in), 24 A8 (in), 25 A9 (in), 27 ~{WE} (in), 28 VCC (power) hidden to VCC

## 2620
designator U?
pins: 1 ~{OE} (in), 2 D0 (hiz), 3 D1 (hiz), 4 ~{WE} (in), 5 ~{RAS} (in), 6 A6 (in), 7 A5 (in), 8 A4 (in), 9 VCC (power) hidden to VCC, 10 A7 (in), 11 A3 (in), 12 A2 (in), 13 A1 (in), 14 A0 (in), 15 D2 (hiz), 16 ~{CAS} (in), 17 D3 (hiz), 18 VSS (power) hidden to VSS

## 2630
designator U?
pins: 1 ~{RFSH} (in), 2 A12 (in), 3 A7 (in), 4 A6 (in), 5 A5 (in), 6 A4 (in), 7 A3 (in), 8 A2 (in), 9 A1 (in), 10 A0 (in), 11 D0 (hiz), 12 D1 (hiz), 13 D2 (hiz), 14 GND (power) hidden to GND, 15 D3 (hiz), 16 D4 (hiz), 17 D5 (hiz), 18 D6 (hiz), 19 D7 (hiz), 20 ~{CE} (in), 21 A10 (in), 22 ~{OE} (in), 23 A11 (in), 24 A8 (in), 25 A9 (in), 26 CS (in), 27 ~{WE} (in), 28 VCC (power) hidden to VCC

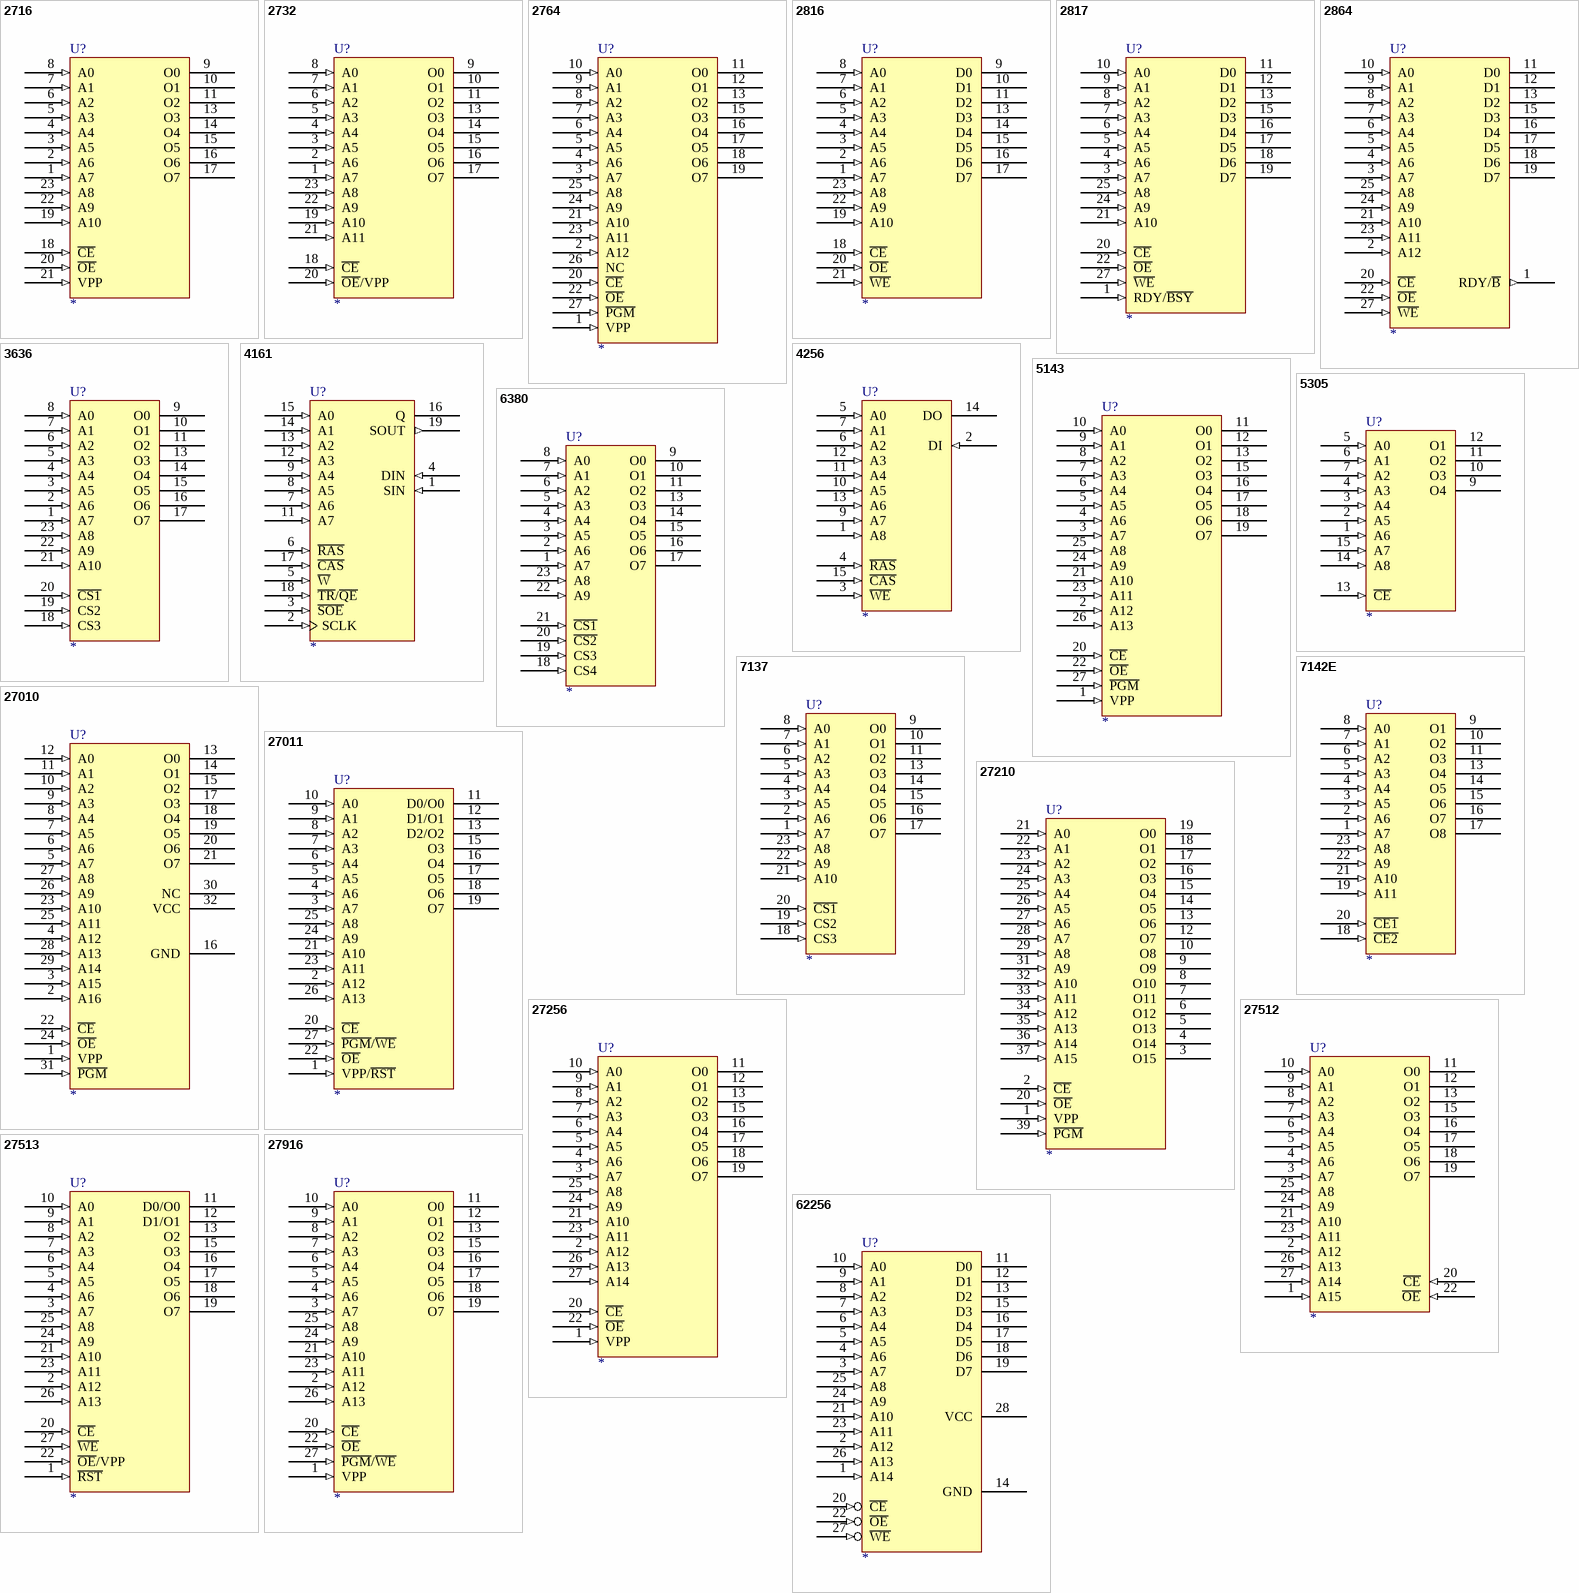
[diagram p3: symbols 2716 to 62256]

## 2716
designator U?
pins: 1 A7 (in), 2 A6 (in), 3 A5 (in), 4 A4 (in), 5 A3 (in), 6 A2 (in), 7 A1 (in), 8 A0 (in), 9 O0 (hiz), 10 O1 (hiz), 11 O2 (hiz), 12 GND (power) hidden to GND, 13 O3 (hiz), 14 O4 (hiz), 15 O5 (hiz), 16 O6 (hiz), 17 O7 (hiz), 18 ~{CE} (in), 19 A10 (in), 20 ~{OE} (in), 21 VPP (in), 22 A9 (in), 23 A8 (in), 24 VCC (power) hidden to VCC

## 2732
designator U?
pins: 1 A7 (in), 2 A6 (in), 3 A5 (in), 4 A4 (in), 5 A3 (in), 6 A2 (in), 7 A1 (in), 8 A0 (in), 9 O0 (hiz), 10 O1 (hiz), 11 O2 (hiz), 12 GND (power) hidden to GND, 13 O3 (hiz), 14 O4 (hiz), 15 O5 (hiz), 16 O6 (hiz), 17 O7 (hiz), 18 ~{CE} (in), 19 A10 (in), 20 ~{OE}/VPP (in), 21 A11 (in), 22 A9 (in), 23 A8 (in), 24 VCC (power) hidden to VCC

## 2764
designator U?
pins: 1 VPP (in), 2 A12 (in), 3 A7 (in), 4 A6 (in), 5 A5 (in), 6 A4 (in), 7 A3 (in), 8 A2 (in), 9 A1 (in), 10 A0 (in), 11 O0 (hiz), 12 O1 (hiz), 13 O2 (hiz), 14 GND (power) hidden to GND, 15 O3 (hiz), 16 O4 (hiz), 17 O5 (hiz), 18 O6 (hiz), 19 O7 (hiz), 20 ~{CE} (in), 21 A10 (in), 22 ~{OE} (in), 23 A11 (in), 24 A9 (in), 25 A8 (in), 26 NC, 27 ~{PGM} (in), 28 VCC (power) hidden to VCC

## 2816
designator U?
pins: 1 A7 (in), 2 A6 (in), 3 A5 (in), 4 A4 (in), 5 A3 (in), 6 A2 (in), 7 A1 (in), 8 A0 (in), 9 D0 (hiz), 10 D1 (hiz), 11 D2 (hiz), 12 GND (power) hidden to GND, 13 D3 (hiz), 14 D4 (hiz), 15 D5 (hiz), 16 D6 (hiz), 17 D7 (hiz), 18 ~{CE} (in), 19 A10 (in), 20 ~{OE} (in), 21 ~{WE} (in), 22 A9 (in), 23 A8 (in), 24 VCC (power) hidden to VCC

## 2817
designator U?
pins: 1 RDY/~{BSY} (in), 3 A7 (in), 4 A6 (in), 5 A5 (in), 6 A4 (in), 7 A3 (in), 8 A2 (in), 9 A1 (in), 10 A0 (in), 11 D0 (hiz), 12 D1 (hiz), 13 D2 (hiz), 14 GND (power) hidden to GND, 15 D3 (hiz), 16 D4 (hiz), 17 D5 (hiz), 18 D6 (hiz), 19 D7 (hiz), 20 ~{CE} (in), 21 A10 (in), 22 ~{OE} (in), 24 A9 (in), 25 A8 (in), 27 ~{WE} (in), 28 VCC (power) hidden to VCC

## 2864
designator U?
pins: 1 RDY/~{B} (out), 2 A12 (in), 3 A7 (in), 4 A6 (in), 5 A5 (in), 6 A4 (in), 7 A3 (in), 8 A2 (in), 9 A1 (in), 10 A0 (in), 11 D0 (hiz), 12 D1 (hiz), 13 D2 (hiz), 14 GND (power) hidden to GND, 15 D3 (hiz), 16 D4 (hiz), 17 D5 (hiz), 18 D6 (hiz), 19 D7 (hiz), 20 ~{CE} (in), 21 A10 (in), 22 ~{OE} (in), 23 A11 (in), 24 A9 (in), 25 A8 (in), 27 ~{WE} (in), 28 VCC (power) hidden to VCC

## 3636
designator U?
pins: 1 A7 (in), 2 A6 (in), 3 A5 (in), 4 A4 (in), 5 A3 (in), 6 A2 (in), 7 A1 (in), 8 A0 (in), 9 O0 (hiz), 10 O1 (hiz), 11 O2 (hiz), 12 GND (power) hidden to GND, 13 O3 (hiz), 14 O4 (hiz), 15 O5 (hiz), 16 O6 (hiz), 17 O7 (hiz), 18 CS3 (in), 19 CS2 (in), 20 ~{CS1} (in), 21 A10 (in), 22 A9 (in), 23 A8 (in), 24 VCC (power) hidden to VCC

## 4161
designator U?
pins: 1 SIN (in), 2 SCLK (in), 3 ~{SOE} (in), 4 DIN (in), 5 ~{W} (in), 6 ~{RAS} (in), 7 A6 (in), 8 A5 (in), 9 A4 (in), 10 VDD (power) hidden to VDD, 11 A7 (in), 12 A3 (in), 13 A2 (in), 14 A1 (in), 15 A0 (in), 16 Q (hiz), 17 ~{CAS} (in), 18 ~{TR}/~{QE} (in), 19 SOUT (out), 20 VSS (power) hidden to VSS

## 4256
designator U?
pins: 1 A8 (in), 2 DI (in), 3 ~{WE} (in), 4 ~{RAS} (in), 5 A0 (in), 6 A2 (in), 7 A1 (in), 8 VCC (power) hidden to VCC, 9 A7 (in), 10 A5 (in), 11 A4 (in), 12 A3 (in), 13 A6 (in), 14 DO (hiz), 15 ~{CAS} (in), 16 VSS (power) hidden to VSS

## 5143
designator U?
pins: 1 VPP (in), 2 A12 (in), 3 A7 (in), 4 A6 (in), 5 A5 (in), 6 A4 (in), 7 A3 (in), 8 A2 (in), 9 A1 (in), 10 A0 (in), 11 O0 (hiz), 12 O1 (hiz), 13 O2 (hiz), 14 GND (power) hidden to GND, 15 O3 (hiz), 16 O4 (hiz), 17 O5 (hiz), 18 O6 (hiz), 19 O7 (hiz), 20 ~{CE} (in), 21 A10 (in), 22 ~{OE} (in), 23 A11 (in), 24 A9 (in), 25 A8 (in), 26 A13 (in), 27 ~{PGM} (in), 28 VCC (power) hidden to VCC

## 5305
designator U?
pins: 1 A6 (in), 2 A5 (in), 3 A4 (in), 4 A3 (in), 5 A0 (in), 6 A1 (in), 7 A2 (in), 8 GND (power) hidden to GND, 9 O4 (oc), 10 O3 (oc), 11 O2 (oc), 12 O1 (oc), 13 ~{CE} (in), 14 A8 (in), 15 A7 (in), 16 VCC (power) hidden to VCC

## 6380
designator U?
pins: 1 A7 (in), 2 A6 (in), 3 A5 (in), 4 A4 (in), 5 A3 (in), 6 A2 (in), 7 A1 (in), 8 A0 (in), 9 O0 (oc), 10 O1 (oc), 11 O2 (oc), 12 GND (power) hidden to GND, 13 O3 (oc), 14 O4 (oc), 15 O5 (oc), 16 O6 (oc), 17 O7 (oc), 18 CS4 (in), 19 CS3 (in), 20 ~{CS2} (in), 21 ~{CS1} (in), 22 A9 (in), 23 A8 (in), 24 VCC (power) hidden to VCC

## 7137
designator U?
pins: 1 A7 (in), 2 A6 (in), 3 A5 (in), 4 A4 (in), 5 A3 (in), 6 A2 (in), 7 A1 (in), 8 A0 (in), 9 O0 (oc), 10 O1 (oc), 11 O2 (oc), 12 GND (power) hidden to GND, 13 O3 (oc), 14 O4 (oc), 15 O5 (oc), 16 O6 (oc), 17 O7 (oc), 18 CS3 (in), 19 CS2 (in), 20 ~{CS1} (in), 21 A10 (in), 22 A9 (in), 23 A8 (in), 24 VCC (power) hidden to VCC

## 7142E
designator U?
pins: 1 A7 (in), 2 A6 (in), 3 A5 (in), 4 A4 (in), 5 A3 (in), 6 A2 (in), 7 A1 (in), 8 A0 (in), 9 O1 (hiz), 10 O2 (hiz), 11 O3 (hiz), 12 GND (power) hidden to GND, 13 O4 (hiz), 14 O5 (hiz), 15 O6 (hiz), 16 O7 (hiz), 17 O8 (hiz), 18 ~{CE2} (in), 19 A11 (in), 20 ~{CE1} (in), 21 A10 (in), 22 A9 (in), 23 A8 (in), 24 VCC (power) hidden to VCC

## 27010
designator U?
footprint 32DIP600
pins: 1 VPP (in), 2 A16 (in), 3 A15 (in), 4 A12 (in), 5 A7 (in), 6 A6 (in), 7 A5 (in), 8 A4 (in), 9 A3 (in), 10 A2 (in), 11 A1 (in), 12 A0 (in), 13 O0 (hiz), 14 O1 (hiz), 15 O2 (hiz), 16 GND (power), 17 O3 (hiz), 18 O4 (hiz), 19 O5 (hiz), 20 O6 (hiz), 21 O7 (hiz), 22 ~{CE} (in), 23 A10 (in), 24 ~{OE} (in), 25 A11 (in), 26 A9 (in), 27 A8 (in), 28 A13 (in), 29 A14 (in), 30 NC, 31 ~{PGM} (in), 32 VCC (power)

## 27011
designator U?
pins: 1 VPP/~{RST} (in), 2 A12 (in), 3 A7 (in), 4 A6 (in), 5 A5 (in), 6 A4 (in), 7 A3 (in), 8 A2 (in), 9 A1 (in), 10 A0 (in), 11 D0/O0 (hiz), 12 D1/O1 (hiz), 13 D2/O2 (hiz), 14 GND (power) hidden to GND, 15 O3 (hiz), 16 O4 (hiz), 17 O5 (hiz), 18 O6 (hiz), 19 O7 (hiz), 20 ~{CE} (in), 21 A10 (in), 22 ~{OE} (in), 23 A11 (in), 24 A9 (in), 25 A8 (in), 26 A13 (in), 27 ~{PGM}/~{WE} (in), 28 VCC (power) hidden to VCC

## 27210
designator U?
pins: 1 VPP (in), 2 ~{CE} (in), 3 O15 (hiz), 4 O14 (hiz), 5 O13 (hiz), 6 O12 (hiz), 7 O11 (hiz), 8 O10 (hiz), 9 O9 (hiz), 10 O8 (hiz), 11 GND (power) hidden to GND, 12 O7 (hiz), 13 O6 (hiz), 14 O5 (hiz), 15 O4 (hiz), 16 O3 (hiz), 17 O2 (hiz), 18 O1 (hiz), 19 O0 (hiz), 20 ~{OE} (in), 21 A0 (in), 22 A1 (in), 23 A2 (in), 24 A3 (in), 25 A4 (in), 26 A5 (in), 27 A6 (in), 28 A7 (in), 29 A8 (in), 30 GND (power) hidden to GND, 31 A9 (in), 32 A10 (in), 33 A11 (in), 34 A12 (in), 35 A13 (in), 36 A14 (in), 37 A15 (in), 39 ~{PGM} (in), 40 VCC (power) hidden to VCC

## 27256
designator U?
pins: 1 VPP (in), 2 A12 (in), 3 A7 (in), 4 A6 (in), 5 A5 (in), 6 A4 (in), 7 A3 (in), 8 A2 (in), 9 A1 (in), 10 A0 (in), 11 O0 (hiz), 12 O1 (hiz), 13 O2 (hiz), 14 GND (power) hidden to GND, 15 O3 (hiz), 16 O4 (hiz), 17 O5 (hiz), 18 O6 (hiz), 19 O7 (hiz), 20 ~{CE} (in), 21 A10 (in), 22 ~{OE} (in), 23 A11 (in), 24 A9 (in), 25 A8 (in), 26 A13 (in), 27 A14 (in), 28 VCC (power) hidden to VCC

## 27512
designator U?
pins: 1 A15 (in), 2 A12 (in), 3 A7 (in), 4 A6 (in), 5 A5 (in), 6 A4 (in), 7 A3 (in), 8 A2 (in), 9 A1 (in), 10 A0 (in), 11 O0 (hiz), 12 O1 (hiz), 13 O2 (hiz), 14 GND (power) hidden to GND, 15 O3 (hiz), 16 O4 (hiz), 17 O5 (hiz), 18 O6 (hiz), 19 O7 (hiz), 20 ~{CE} (in), 21 A10 (in), 22 ~{OE} (in), 23 A11 (in), 24 A9 (in), 25 A8 (in), 26 A13 (in), 27 A14 (in), 28 VCC (power) hidden to VCC

## 27513
designator U?
pins: 1 ~{RST} (in), 2 A12 (in), 3 A7 (in), 4 A6 (in), 5 A5 (in), 6 A4 (in), 7 A3 (in), 8 A2 (in), 9 A1 (in), 10 A0 (in), 11 D0/O0 (hiz), 12 D1/O1 (hiz), 13 O2 (hiz), 14 GND (power) hidden to GND, 15 O3 (hiz), 16 O4 (hiz), 17 O5 (hiz), 18 O6 (hiz), 19 O7 (hiz), 20 ~{CE} (in), 21 A10 (in), 22 ~{OE}/VPP (in), 23 A11 (in), 24 A9 (in), 25 A8 (in), 26 A13 (in), 27 ~{WE} (in), 28 VCC (power) hidden to VCC

## 27916
designator U?
pins: 1 VPP (in), 2 A12 (in), 3 A7 (in), 4 A6 (in), 5 A5 (in), 6 A4 (in), 7 A3 (in), 8 A2 (in), 9 A1 (in), 10 A0 (in), 11 O0 (hiz), 12 O1 (hiz), 13 O2 (hiz), 14 GND (power) hidden to GND, 15 O3 (hiz), 16 O4 (hiz), 17 O5 (hiz), 18 O6 (hiz), 19 O7 (hiz), 20 ~{CE} (in), 21 A10 (in), 22 ~{OE} (in), 23 A11 (in), 24 A9 (in), 25 A8 (in), 26 A13 (in), 27 ~{PGM}/~{WE} (in), 28 VCC (power) hidden to VCC

## 62256
designator U?
footprint 28SOIC450
footprint 28DIP600
pins: 1 A14 (in), 2 A12 (in), 3 A7 (in), 4 A6 (in), 5 A5 (in), 6 A4 (in), 7 A3 (in), 8 A2 (in), 9 A1 (in), 10 A0 (in), 11 D0 (hiz), 12 D1 (hiz), 13 D2 (hiz), 14 GND, 15 D3 (hiz), 16 D4 (hiz), 17 D5 (hiz), 18 D6 (hiz), 19 D7 (hiz), 20 ~{CE} (in), 21 A10 (in), 22 ~{OE} (in), 23 A11 (in), 24 A9 (in), 25 A8 (in), 26 A13 (in), 27 ~{WE} (in), 28 VCC

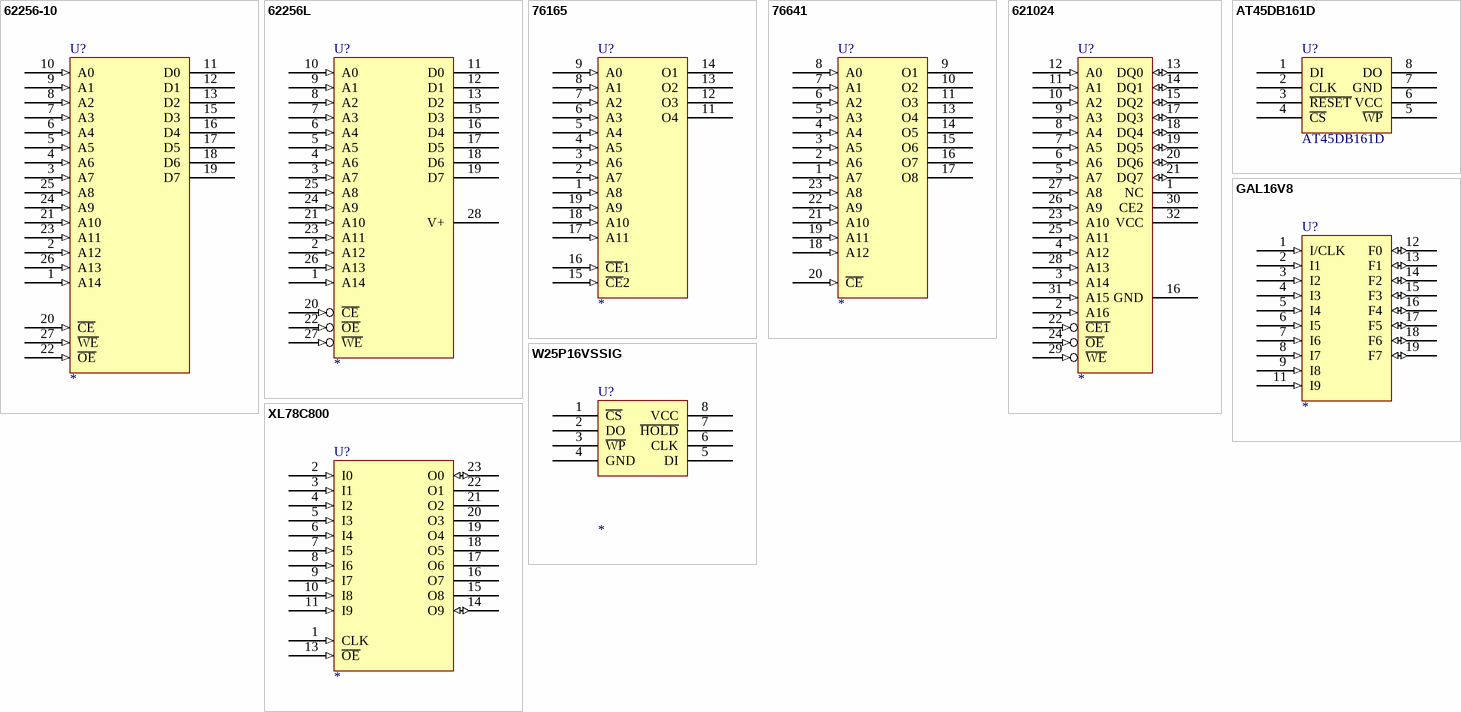
[diagram p4: symbols 62256-10 to XL78C800]

## 62256-10
designator U?
pins: 1 A14 (in), 2 A12 (in), 3 A7 (in), 4 A6 (in), 5 A5 (in), 6 A4 (in), 7 A3 (in), 8 A2 (in), 9 A1 (in), 10 A0 (in), 11 D0 (hiz), 12 D1 (hiz), 13 D2 (hiz), 14 GND (power) hidden to GND, 15 D3 (hiz), 16 D4 (hiz), 17 D5 (hiz), 18 D6 (hiz), 19 D7 (hiz), 20 ~{CE} (in), 21 A10 (in), 22 ~{OE} (in), 23 A11 (in), 24 A9 (in), 25 A8 (in), 26 A13 (in), 27 ~{WE} (in), 28 VCC (power) hidden to VCC

## 62256L
designator U?
pins: 1 A14 (in), 2 A12 (in), 3 A7 (in), 4 A6 (in), 5 A5 (in), 6 A4 (in), 7 A3 (in), 8 A2 (in), 9 A1 (in), 10 A0 (in), 11 D0 (hiz), 12 D1 (hiz), 13 D2 (hiz), 14 GND (power) hidden to GND, 15 D3 (hiz), 16 D4 (hiz), 17 D5 (hiz), 18 D6 (hiz), 19 D7 (hiz), 20 ~{CE} (in), 21 A10 (in), 22 ~{OE} (in), 23 A11 (in), 24 A9 (in), 25 A8 (in), 26 A13 (in), 27 ~{WE} (in), 28 V+

## 76165
designator U?
pins: 1 A8 (in), 2 A7 (in), 3 A6 (in), 4 A5 (in), 5 A4 (in), 6 A3 (in), 7 A2 (in), 8 A1 (in), 9 A0 (in), 10 GND (power) hidden to GND, 11 O4 (hiz), 12 O3 (hiz), 13 O2 (hiz), 14 O1 (hiz), 15 ~{CE}2 (in), 16 ~{CE}1 (in), 17 A11 (in), 18 A10 (in), 19 A9 (in), 20 VCC (power) hidden to VCC

## 76641
designator U?
pins: 1 A7 (in), 2 A6 (in), 3 A5 (in), 4 A4 (in), 5 A3 (in), 6 A2 (in), 7 A1 (in), 8 A0 (in), 9 O1 (hiz), 10 O2 (hiz), 11 O3 (hiz), 12 GND (power) hidden to GND, 13 O4 (hiz), 14 O5 (hiz), 15 O6 (hiz), 16 O7 (hiz), 17 O8 (hiz), 18 A12 (in), 19 A11 (in), 20 ~{CE} (in), 21 A10 (in), 22 A9 (in), 23 A8 (in), 24 VCC (power) hidden to VCC

## 621024
designator U?
footprint 32SOIC450
pins: 1 NC, 2 A16 (in), 3 A14 (in), 4 A12 (in), 5 A7 (in), 6 A6 (in), 7 A5 (in), 8 A4 (in), 9 A3 (in), 10 A2 (in), 11 A1 (in), 12 A0 (in), 13 DQ0 (io), 14 DQ1 (io), 15 DQ2 (io), 16 GND, 17 DQ3 (io), 18 DQ4 (io), 19 DQ5 (io), 20 DQ6 (io), 21 DQ7 (io), 22 ~{CE1} (in), 23 A10 (in), 24 ~{OE} (in), 25 A11 (in), 26 A9 (in), 27 A8 (in), 28 A13 (in), 29 ~{WE} (in), 30 CE2, 31 A15 (in), 32 VCC

## AT45DB161D
designator U?
Value: AT45DB161D
footprint 8SOIC150
pins: 1 DI, 2 CLK, 3 ~{RESET}, 4 ~{CS}, 5 ~{WP}, 6 VCC, 7 GND, 8 DO

## GAL16V8
designator U?
footprint 20DIP300
footprint 20SOIC300
pins: 1 I/CLK (in), 2 I1 (in), 3 I2 (in), 4 I3 (in), 5 I4 (in), 6 I5 (in), 7 I6 (in), 8 I7 (in), 9 I8 (in), 10 GND (power) hidden to GND, 11 I9 (in), 12 F0 (io), 13 F1 (io), 14 F2 (io), 15 F3 (io), 16 F4 (io), 17 F5 (io), 18 F6 (io), 19 F7 (io), 20 VCC (power) hidden to VCC

## W25P16VSSIG
designator U?
footprint 8SOIC200
pins: 1 ~{CS}, 2 DO, 3 ~{WP}, 4 GND, 5 DI, 6 CLK, 7 ~{HOLD}, 8 VCC

## XL78C800
designator U?
pins: 1 CLK (in), 2 I0 (in), 3 I1 (in), 4 I2 (in), 5 I3 (in), 6 I4 (in), 7 I5 (in), 8 I6 (in), 9 I7 (in), 10 I8 (in), 11 I9 (in), 12 GND (power) hidden to GND, 13 ~{OE} (in), 14 O9 (io), 15 O8 (hiz), 16 O7 (hiz), 17 O6 (hiz), 18 O5 (hiz), 19 O4 (hiz), 20 O3 (hiz), 21 O2 (hiz), 22 O1 (hiz), 23 O0 (io), 24 VCC (power) hidden to VCC